# Altium footprint library NLSV2T244.PcbLib: 1 footprints
Each footprint in its own frame and in the unit in brackets; x right, y up, seen from the top. Pads: shape width x height; smd on the part's side, far side on the other; paste and mask are expansions set on the pad; w line width, h text height; cw(c..) or ccw(c..) is an arc to the next point about the centre after c.
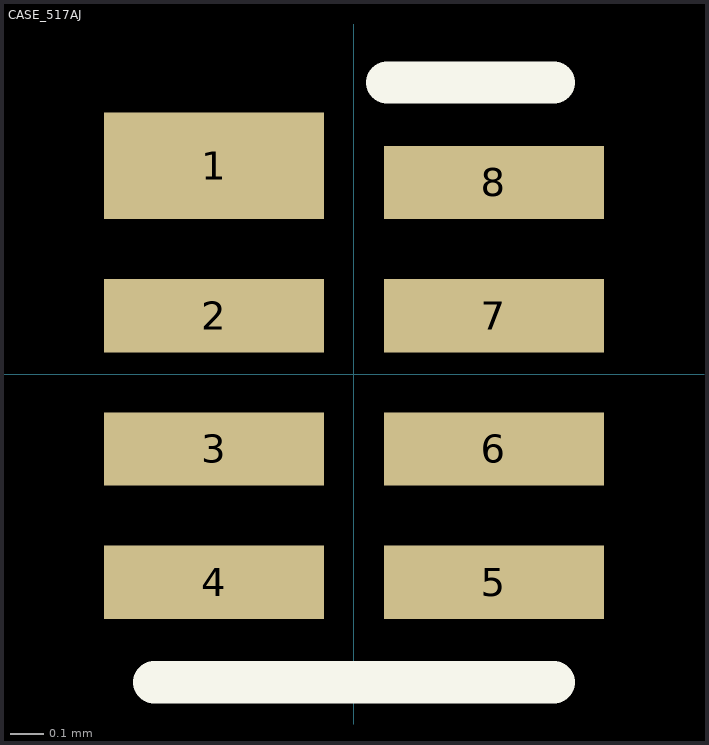
[diagram p0: the footprint, top view; thin cyan lines are the x and y axes]

## CASE_517AJ [mm]
height 0.8
pads (8):
  rect 0.66x0.32 smd mask+0.07: 1(-0.42,0.625)
  rect 0.66x0.22 smd mask+0.07: 2(-0.42,0.175) 3(-0.42,-0.225) 4(-0.42,-0.625) 5(0.42,-0.625) 6(0.42,-0.225) 7(0.42,0.175) 8(0.42,0.575)
Top Overlay:
  lines w0.127: -0.6,-0.925 0.6,-0.925 ; 0.1,0.875 0.6,0.875
  text "." at -1.077,0.596 h0.18
3D body: height 0.5, standoff 0.01, extent -0.6,-0.925 0.6,0.875